# Altium footprint library CON_TE-5747844-4_V.PcbLib: 1 footprints
Each footprint in its own frame and in the unit in brackets; x right, y up, seen from the top. Pads: shape width x height; smd on the part's side, far side on the other; paste and mask are expansions set on the pad; w line width, h text height; cw(c..) or ccw(c..) is an arc to the next point about the centre after c.
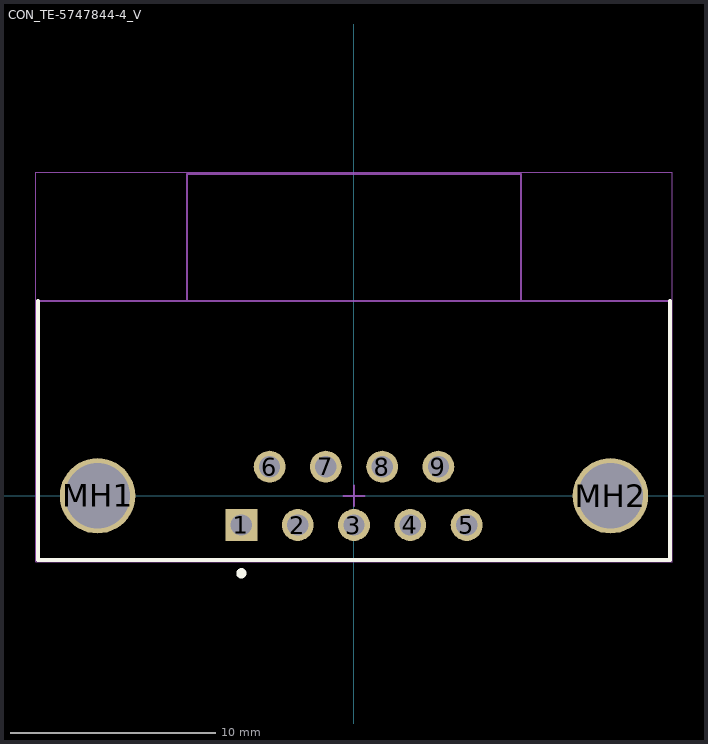
[diagram p0: the footprint, top view; thin cyan lines are the x and y axes]

## CON_TE-5747844-4_V [mil] "TH, 9-Leads, Body 30.81x18.796mm, Pitch 1.3716mm"
height 509
pads (11):
  rect 61.02x61.02 hole 41: 1(-216,-56)
  round 61.02 hole 41: 2(-108,-56) 3(0,-56) 4(108,-56) 5(216,-56) 6(-162,56) 7(-54,56) 8(54,56) 9(162,56)
  round 144.69 hole 125: MH1(-492,0) MH2(492,0)
Top Overlay:
  circle w9.84: c-215.98,-148.58 r4.92
  lines w7.87: -606.49,374 -606.49,-123 606.5,-123 606.5,374
Mechanical 13:
  lines w3.94: -320,374 -320,617 320,617 320,374 ; -606.5,-123 606.5,-123 606.5,374 -606.5,374 -606.5,-123
Mechanical 15:
  lines w1.97: -610.43,-126.93 -610.43,620.94 610.43,620.94 610.43,-126.93 -610.43,-126.93
  lines w3.94: -19.68,0 19.68,0 ; 0,-19.68 0,19.68
3D body "c-5747844-04-o-3d.stp": height 494, standoff -128.4, extent -610.01,-125.41 609.99,618.49